# Altium schematic symbol library LDO Reg.SchLib: 12 symbols
Pins are listed as number, name and electrical type; pins without a type are passive.

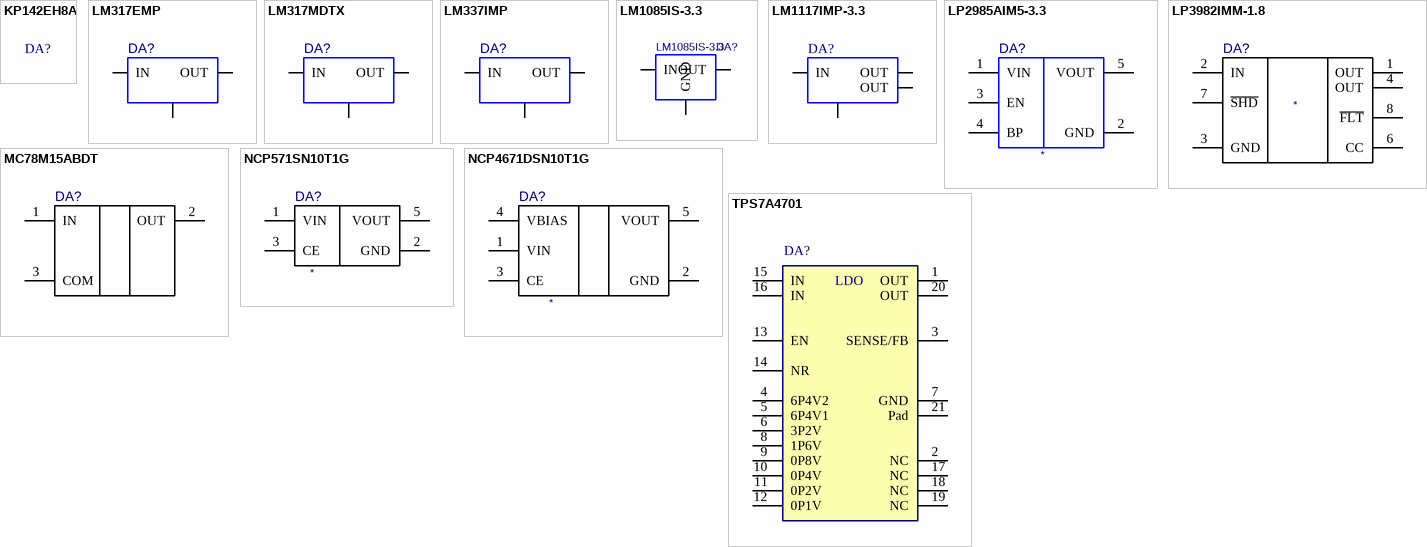
[diagram p0: symbols KP142EH8A to TPS7A4701]

## KP142EH8A
designator DA?  (value not drawn)
KP142EH8A; Value: *
footprint TO-220AB_Primary
footprint TO-220AB_TO-200AB-R
footprint TO-220AB_TO-200AB-R1
footprint TO-220AB_TO-220AB-1
footprint TO-220AB_TO-220AB-2

## LM317EMP
designator DA?, comment LM317EMP/NOPB  (value not drawn)
LM317EMP; Value: *
footprint SOT-223 PWR
pins: 1 G, 2 OUT, 3 IN

## LM317MDTX
designator DA?  (value not drawn)
LM317MDTX; Value: *
footprint D-PAK (TO-252)
pins: 1 G, 2 IN, 3 OUT

## LM337IMP
designator DA?, comment LM337IMP/NOPB  (value not drawn)
Value: *
footprint SOT-223 PWR
pins: 1 G, 2 IN, 3 OUT

## LM1085IS-3.3
designator DA?
Value: *
footprint TO-263
pins: 1 GND, 2 OUT, 3 IN, 4 hidden

## LM1117IMP-3.3
designator DA?  (value not drawn)
LM1117IMP-3.3; Value: *
footprint SOT-223
pins: 1 G, 2 OUT, 3 IN, 4 OUT

## LP2985AIM5-3.3
designator DA?
Micropower 150-mA Low-Noise Ultra-Low-Dropout Regulator in a SOT-23
footprint SOT23-5
pins: 1 VIN, 2 GND, 3 EN, 4 BP, 5 VOUT

## LP3982IMM-1.8
designator DA?
Micropower, Ultra Low-Dropout, Low-Noise, 300mA CMOS Regulator
footprint MSOP8_LDO
pins: 1 OUT, 2 IN, 3 GND, 4 OUT, 6 CC, 7 ~{SHD}, 8 ~{F}~{LT}

## MC78M15ABDT
designator DA?
500 mA Positive Voltage Regulators
footprint D-PAK (TO-252)
pins: 1 IN, 2 OUT, 3 COM

## NCP571SN10T1G
designator DA?
150 mA CMOS Low Iq Low Output Voltage Regulator
footprint SOT23-5
pins: 1 VIN, 2 GND, 3 CE, 5 VOUT

## NCP4671DSN10T1G
designator DA?
400 mA, Dual Rail Ultra Low Dropout Linear Regulator
footprint SOT23-5
pins: 1 VIN, 2 GND, 3 CE, 4 VBIAS, 5 VOUT

## TPS7A4701
designator DA?
footprint VQFN-20(S-PVQFN-N20)
pins: 1 OUT, 2 NC, 3 SENSE/FB, 4 6P4V2, 5 6P4V1, 6 3P2V, 7 GND, 8 1P6V, 9 0P8V, 10 0P4V, 11 0P2V, 12 0P1V, 13 EN, 14 NR, 15 IN, 16 IN, 17 NC, 18 NC, 19 NC, 20 OUT, 21 Pad
text: LDO